# Altium footprint library DFN_10.PcbLib: 2 footprints
Each footprint in its own frame and in the unit in brackets; x right, y up, seen from the top. Pads: shape width x height; smd on the part's side, far side on the other; paste and mask are expansions set on the pad; w line width, h text height; cw(c..) or ccw(c..) is an arc to the next point about the centre after c.
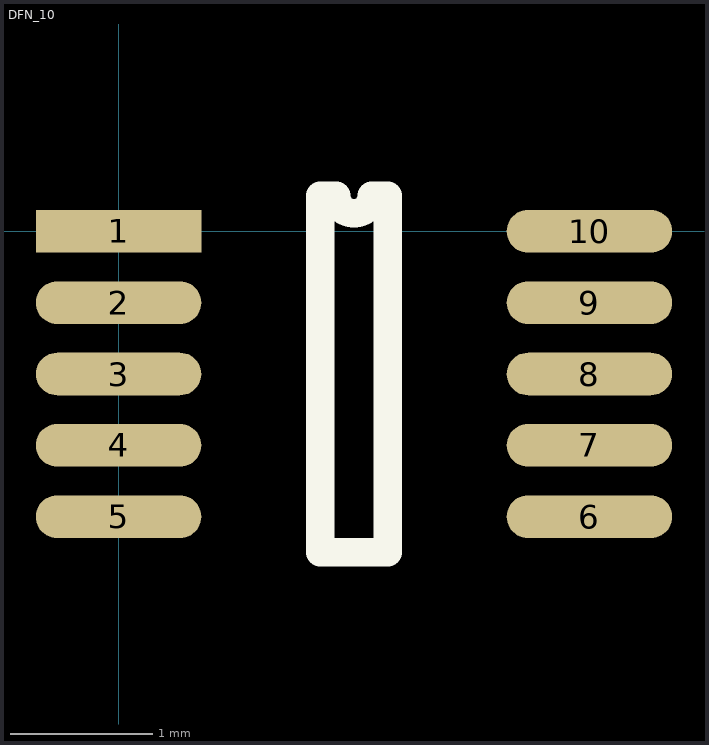
[diagram p0: the footprints below, top view; thin cyan lines are the x and y axes]

## DFN_10 [mm]
pads (10):
  rect 1.16x0.3 smd: 1(0,0)
  oval 1.16x0.3 smd: 2(0,-0.5) 3(0,-1) 4(0,-1.5) 5(0,-2) 6(3.3,-2) 7(3.3,-1.5) 8(3.3,-1) 9(3.3,-0.5) 10(3.3,0)
Top Overlay:
  lines w0.2: 1.415,-2.25 1.415,0.25 1.525,0.25 ccw(c1.65,0.25) 1.775,0.25 1.885,0.25 1.885,-2.25 1.415,-2.25

## PCBComponent_1 [mm]